# EAGLE library part ADS7952 (library KylePile)
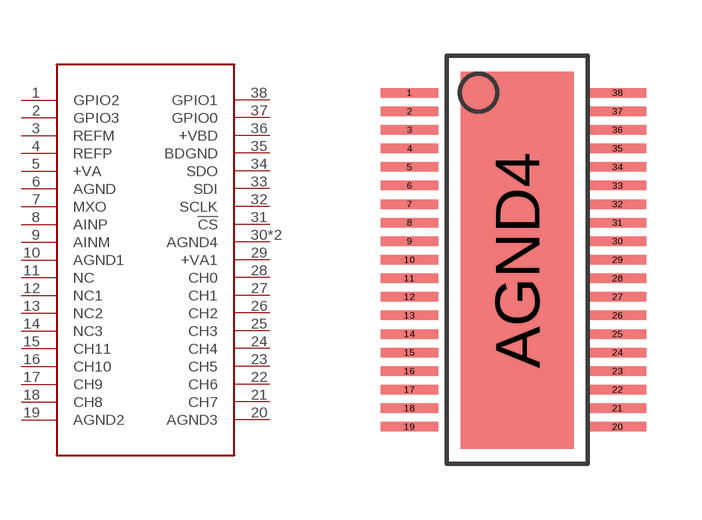
[diagram p19: symbol with the pads of 38-TSSOP; footprint 38-TSSOP]

Designator prefix -

## ADS7952  [38-TSSOP]
1  GPIO2
2  GPIO3
3  REFM
4  REFP
5  +VA
6  AGND
7  MXO
8  AINP
9  AINM
10  AGND1
11  NC
12  NC1
13  NC2
14  NC3
15  CH11
16  CH10
17  CH9
18  CH8
19  AGND2
20  AGND3
21  CH7
22  CH6
23  CH5
24  CH4
25  CH3
26  CH2
27  CH1
28  CH0
29  +VA1
30  AGND4
31  !CS
32  SCLK
33  SDI
34  SDO
35  BDGND
36  +VBD
37  GPIO0
38  GPIO1
AGND4  AGND4

## Footprint 38-TSSOP (pad centres in mm)
smd 1.549 x 0.254: 1 0,4.5; 2 0,4; 3 0,3.5; 4 0,3; 5 0,2.5; 6 0,2; 7 0,1.5; 8 0,1; 9 0,0.5; 10 0,0; 11 0,-0.5; 12 0,-1; 13 0,-1.5; 14 0,-2; 15 0,-2.5; 16 0,-3; 17 0,-3.5; 18 0,-4; 19 0,-4.5; 20 5.6,-4.5; 21 5.6,-4; 22 5.6,-3.5; 23 5.6,-3; 24 5.6,-2.5; 25 5.6,-2; 26 5.6,-1.5; 27 5.6,-1; 28 5.6,-0.5; 29 5.6,0; 30 5.6,0.5; 31 5.6,1; 32 5.6,1.5; 33 5.6,2; 34 5.6,2.5; 35 5.6,3; 36 5.6,3.5; 37 5.6,4; 38 5.6,4.5
smd 3.048 x 10.16: AGND4 2.901,-0.017